# Altium integrated library Optoelectronics.IntLib: 1 symbol
Pins are listed as number, name and electrical type; pins without a type are passive.

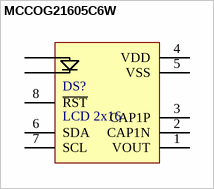
[diagram p0: symbol MCCOG21605C6W]

## MCCOG21605C6W
designator DS?, comment LCD 2x16
Midas MCCOG21605C6W
footprint MIDAS_21605C6W (Layout for Midas LCD)
footprint MIDAS_21605C6W_NOROUT (Layout for Midas LCD)
pins: 1 VOUT, 2 CAP1N, 3 CAP1P, 4 VDD, 5 VSS, 6 SDA, 7 SCL, 8 ~{RST}, 9 A, 10 K